# Altium schematic symbol library MODULE.SchLib: 23 symbols
Pins are listed as number, name and electrical type; pins without a type are passive.

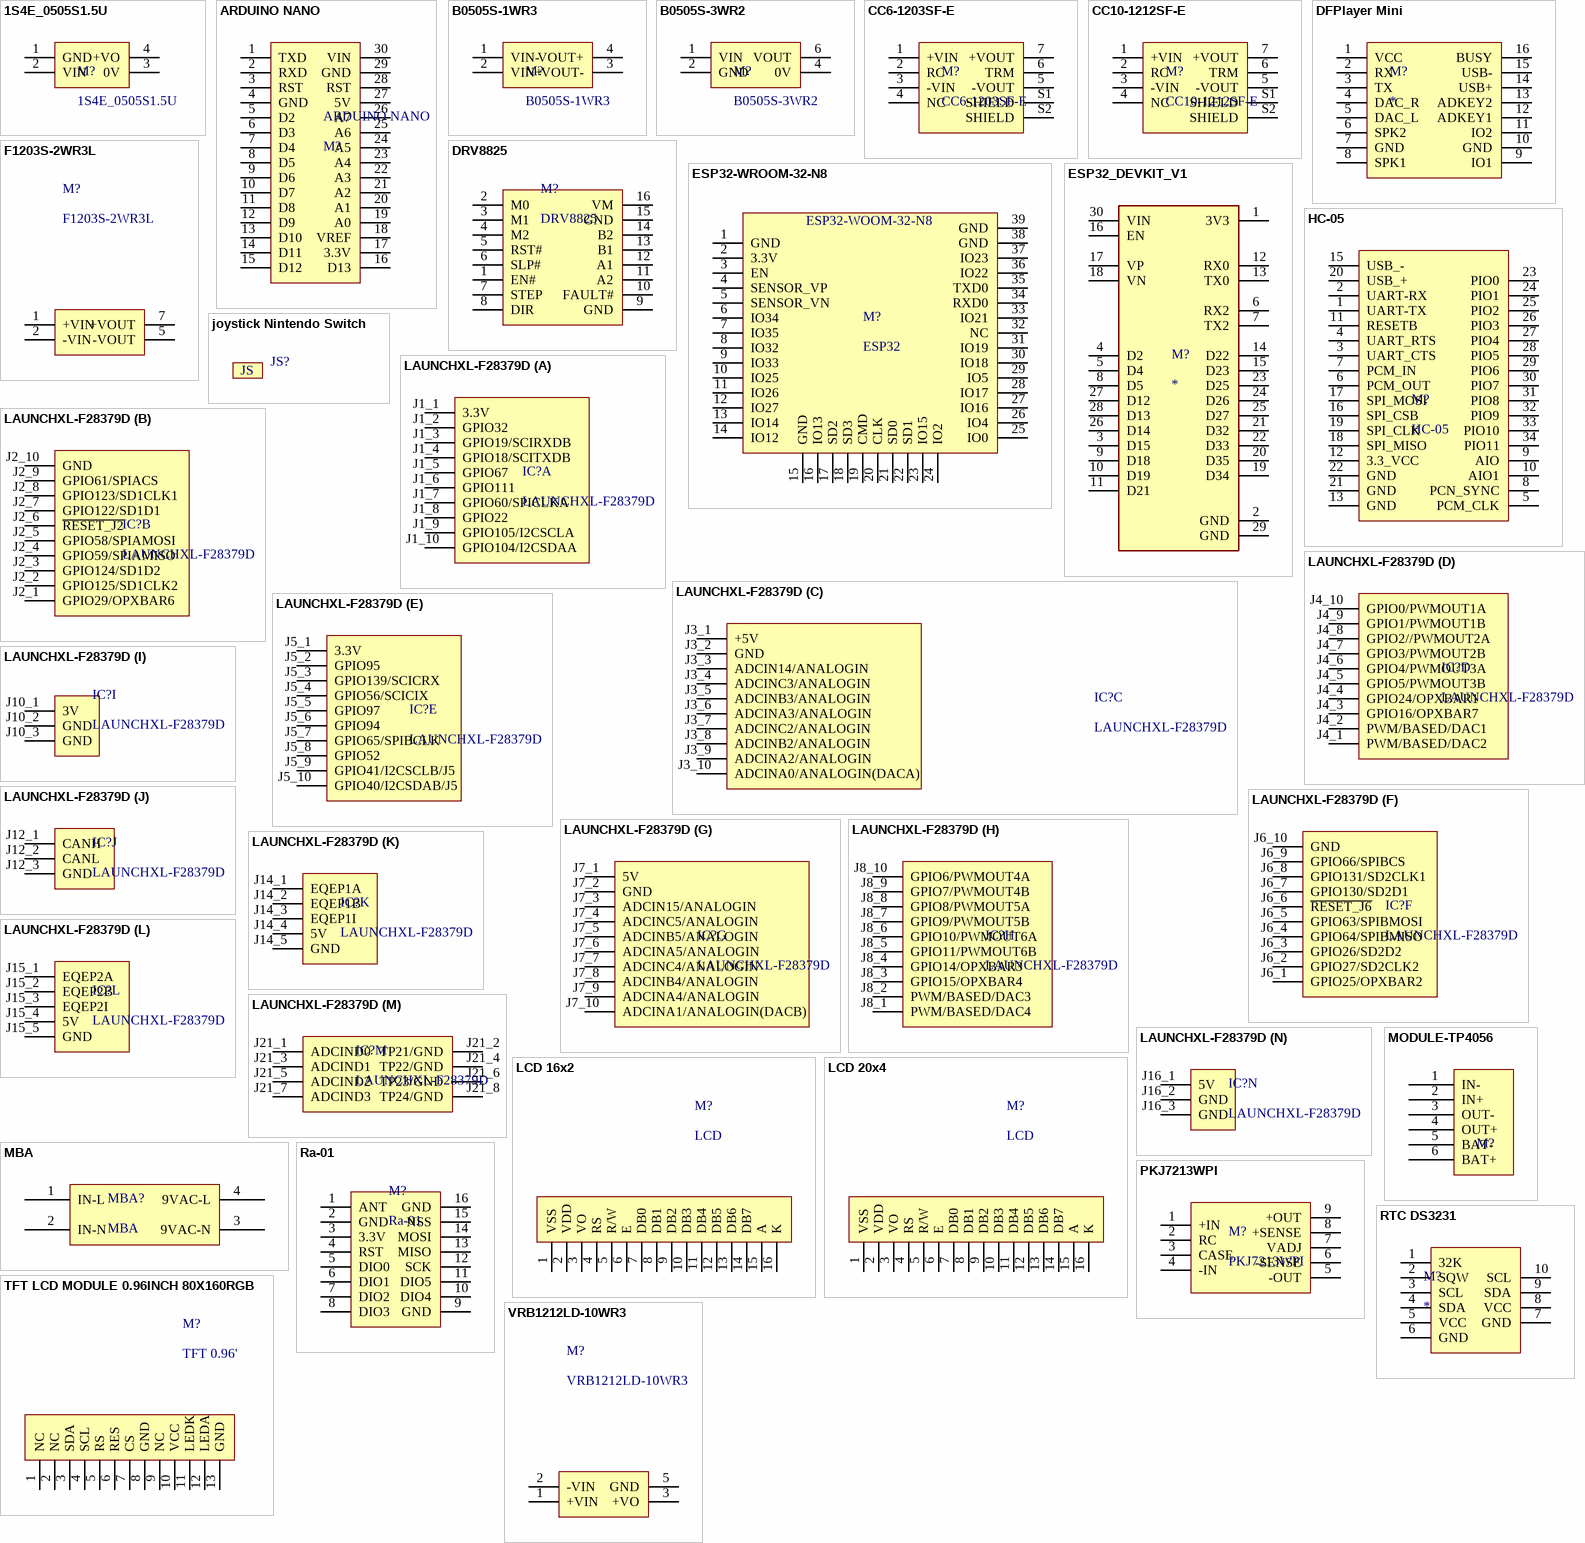
[diagram p0: symbols 1S4E_0505S1.5U to VRB1212LD-10WR3]

## 1S4E_0505S1.5U
designator M?
Isolated Module DC DC Converter 1 Output 5V 200mA 4.5V - 5.5V Input; Manufacturer: GAPTEC Electronic; Package: SIP-4; Mfr.Part #: 1S4E_0505S1.5U; DigiKey Part Number: 3182-1S4E_0505S1.5U-ND
footprint SIP-4,11.68mmx6mm
pins: 1 GND, 2 VIN, 3 0V, 4 +VO

## ARDUINO NANO
designator ARDUINO NANO, comment M?
ARDUINO NANO; So_Chan_Cam: 30; So_Chan_Dan: 0; Manufacturer: Arduino; Name: ARDUINO NANO; Package: Plugin
footprint ARDUINO NANO
pins: 1 TXD, 2 RXD, 3 RST, 4 GND, 5 D2, 6 D3, 7 D4, 8 D5, 9 D6, 10 D7, 11 D8, 12 D9, 13 D10, 14 D11, 15 D12, 16 D13, 17 3.3V, 18 VREF, 19 A0, 20 A1, 21 A2, 22 A3, 23 A4, 24 A5, 25 A6, 26 A7, 27 5V, 28 RST, 29 GND, 30 VIN

## B0505S-1WR3
designator M?
SIP-4 Isolated Power Modules ROHS; Manufacturer: EVISUN; So_Chan_Dan: 0; So_Chan_Cam: 4; Package: SIP-4; Mfr.Part #: B0505S-1WR3; Name: B0505S-1WR3
footprint SIP-4,11.68mmx6mm
pins: 1 VIN-, 2 VIN+, 3 VOUT-, 4 VOUT+

## B0505S-3WR2
designator M?
SIP-4 Isolated Power Modules ROHS; Manufacturer: EVISUN; So_Chan_Dan: 0; So_Chan_Cam: 4; Package: SIP-4; Mfr.Part #: B0505S-3WR2; Name: B0505S-3WR2
footprint SIP-4
pins: 1 VIN, 2 GND, 4 0V, 6 VOUT

## CC6-1203SF-E
designator M?
Isolated Module DC DC Converter 1 Output 3.3V 1.2A 9V - 18V Input; Manufacturer: TDK-Lambda; So_Chan_Dan: 0; So_Chan_Cam: 9; Package: DIP,22.9x21.1mm; Mfr.Part #: CC6-1203SF-E; Name: CC6-1203SF-E
footprint DIP,22.9x21.1mm
pins: 1 +VIN, 2 RC, 3 -VIN, 4 NC, 5 -VOUT, 6 TRM, 7 +VOUT, S1 SHIELD, S2 SHIELD

## CC10-1212SF-E
designator M?
Isolated Module DC DC Converter 1 Output 12 ~ 15V 1A 9V - 18V Input; Manufacturer: TDK-Lambda; So_Chan_Dan: 0; So_Chan_Cam: 9; Package: DIP,22.9x21.1mm; Mfr.Part #: CC10-1212SF-E; Name: CC10-1212SF-E
footprint DIP,35.6mm x 22.6mm
pins: 1 +VIN, 2 RC, 3 -VIN, 4 NC, 5 -VOUT, 6 TRM, 7 +VOUT, S1 SHIELD, S2 SHIELD

## DFPlayer Mini
designator M?
footprint MODULE_DFPlayer_Mini
pins: 1 VCC, 2 RX, 3 TX, 4 DAC_R, 5 DAC_L, 6 SPK2, 7 GND, 8 SPK1, 9 IO1, 10 GND, 11 IO2, 12 ADKEY1, 13 ADKEY2, 14 USB+, 15 USB-, 16 BUSY

## DRV8825
designator M?
DRV8825 Stepper Motor Controller IC; Manufacturer: Texas Instruments; So_Chan_Dan: 0; So_Chan_Cam: 16; Mfr.Part #: DRV8825; Package: Plugin; Name: DRV8825
footprint DRV8825
pins: 1 EN#, 2 M0, 3 M1, 4 M2, 5 RST#, 6 SLP#, 7 STEP, 8 DIR, 9 GND, 10 FAULT#, 11 A2, 12 A1, 13 B1, 14 B2, 15 GND, 16 VM

## ESP32-WROOM-32-N8
designator M?, comment ESP32
148dBm 20dBm SPI SMD-16P LoRa Modules ROHS; Manufacturer: Espressif Systems; Mfr.Part #: ESP32-WROOM-32-N8; So_Chan_Dan: 48; So_Chan_Cam: 0; Package: SMD,18x25.5mm; Name: ESP32-WROOM-32-N8
footprint SMD,25.5x18mm
pins: 1 GND, 2 3.3V, 3 EN, 4 SENSOR_VP, 5 SENSOR_VN, 6 IO34, 7 IO35, 8 IO32, 9 IO33, 10 IO25, 11 IO26, 12 IO27, 13 IO14, 14 IO12, 15 GND, 16 IO13, 17 SD2, 18 SD3, 19 CMD, 20 CLK, 21 SD0, 22 SD1, 23 IO15, 24 IO2, 25 IO0, 26 IO4, 27 IO16, 28 IO17, 29 IO5, 30 IO18, 31 IO19, 32 NC, 33 IO21, 34 RXD0, 35 TXD0, 36 IO22, 37 IO23, 38 GND, 39 GND
text: ESP32-WOOM-32-N8

## ESP32_DEVKIT_V1
designator M?
0.96 ST7735S LCD Screen ROHS; Manufacturer: Not in stock; Mfr.Part #: ESP32-DEVKIT-V1; Package1: TFT LCD 0.96inch; MF: Do it; Value: *; SnapEDA_Link: https://www.snapeda.com/parts/ESP32-DEVKIT-V1/Do+it/view-part/?ref=snap; Check_prices: https://www.snapeda.com/parts/ESP32-DEVKIT-V1/Do+it/view-part/?ref=eda
footprint MODULE_ESP32_DEVKIT_V1
pins: 1 3V3, 2 GND, 3 D15, 4 D2, 5 D4, 6 RX2, 7 TX2, 8 D5, 9 D18, 10 D19, 11 D21, 12 RX0, 13 TX0, 14 D22, 15 D23, 16 EN, 17 VP, 18 VN, 19 D34, 20 D35, 21 D32, 22 D33, 23 D25, 24 D26, 25 D27, 26 D14, 27 D12, 28 D13, 29 GND, 30 VIN

## F1203S-2WR3L
designator M?
SIP-4P Isolated Power Modules ROHS; Manufacturer: HI-LINK; Mfr.Part #: VRB1212LD-10WR3; So_Chan_Dan: 0; So_Chan_Cam: 4; Package: SIP-4P; Name: F1203S-2WR3L
footprint SIP-4
pins: 1 +VIN, 2 -VIN, 5 -VOUT, 7 +VOUT

## HC-05
designator M?
Bluetooth to Serial Port Module; Manufacturer: Shenzhen HCSR; So_Chan_Dan: 34; So_Chan_Cam: 0; Mfr.Part #: HC-05; Name: HC-05; Package: SMD
footprint HC-05
pins: 1 UART-TX, 2 UART-RX, 3 UART_CTS, 4 UART_RTS, 5 PCM_CLK, 6 PCM_OUT, 7 PCM_IN, 8 PCN_SYNC, 9 AIO, 10 AIO1, 11 RESETB, 12 3.3_VCC, 13 GND, 15 USB_-, 16 SPI_CSB, 17 SPI_MOSI, 18 SPI_MISO, 19 SPI_CLK, 20 USB_+, 21 GND, 22 GND, 23 PIO0, 24 PIO1, 25 PIO2, 26 PIO3, 27 PIO4, 28 PIO5, 29 PIO6, 30 PIO7, 31 PIO8, 32 PIO9, 33 PIO10, 34 PIO11

## joystick Nintendo Switch
designator JS?  (value not drawn)
footprint joystick Nintendo Switch
text: JS

## LAUNCHXL-F28379D
designator IC?
C2000 Delfino MCU F28379D LaunchPadâ„¢ development kit; MF: Texas Instruments; SnapEDA_Link: https://www.snapeda.com/parts/LAUNCHXL-F28379D/Texas+Instruments/view-part/?ref=snap; Purchase-URL: https://pricing.snapeda.com/search/part/LAUNCHXL-F28379D/?ref=eda; Value: *; MP: LAUNCHXL-F28379D; Availability: In Stock; Check_prices: https://www.snapeda.com/parts/LAUNCHXL-F28379D/Texas+Instruments/view-part/?ref=eda; Package: None; Price: None
footprint LAUNCHXL-F28379D
part A pins: J1_1 3.3V, J1_2 GPIO32, J1_3 GPIO19/SCIRXDB, J1_4 GPIO18/SCITXDB, J1_5 GPIO67, J1_6 GPIO111, J1_7 GPIO60/SPICLKA, J1_8 GPIO22, J1_9 GPIO105/I2CSCLA, J1_10 GPIO104/I2CSDAA
part B pins: J2_1 GPIO29/OPXBAR6, J2_2 GPIO125/SD1CLK2, J2_3 GPIO124/SD1D2, J2_4 GPIO59/SPIAMISO, J2_5 GPIO58/SPIAMOSI, J2_6 ~{RESET_J2}, J2_7 GPIO122/SD1D1, J2_8 GPIO123/SD1CLK1, J2_9 GPIO61/SPIACS, J2_10 GND
part C pins: J3_1 +5V, J3_2 GND, J3_3 ADCIN14/ANALOGIN, J3_4 ADCINC3/ANALOGIN, J3_5 ADCINB3/ANALOGIN, J3_6 ADCINA3/ANALOGIN, J3_7 ADCINC2/ANALOGIN, J3_8 ADCINB2/ANALOGIN, J3_9 ADCINA2/ANALOGIN, J3_10 ADCINA0/ANALOGIN(DACA)
part D pins: J4_1 PWM/BASED/DAC2, J4_2 PWM/BASED/DAC1, J4_3 GPIO16/OPXBAR7, J4_4 GPIO24/OPXBAR1, J4_5 GPIO5/PWMOUT3B, J4_6 GPIO4/PWMOUT3A, J4_7 GPIO3/PWMOUT2B, J4_8 GPIO2//PWMOUT2A, J4_9 GPIO1/PWMOUT1B, J4_10 GPIO0/PWMOUT1A
part E pins: J5_1 3.3V, J5_2 GPIO95, J5_3 GPIO139/SCICRX, J5_4 GPIO56/SCICIX, J5_5 GPIO97, J5_6 GPIO94, J5_7 GPIO65/SPIBCLK, J5_8 GPIO52, J5_9 GPIO41/I2CSCLB/J5, J5_10 GPIO40/I2CSDAB/J5
part F pins: J6_1 GPIO25/OPXBAR2, J6_2 GPIO27/SD2CLK2, J6_3 GPIO26/SD2D2, J6_4 GPIO64/SPIBMISO, J6_5 GPIO63/SPIBMOSI, J6_6 ~{RESET_J6}, J6_7 GPIO130/SD2D1, J6_8 GPIO131/SD2CLK1, J6_9 GPIO66/SPIBCS, J6_10 GND
part G pins: J7_1 5V, J7_2 GND, J7_3 ADCIN15/ANALOGIN, J7_4 ADCINC5/ANALOGIN, J7_5 ADCINB5/ANALOGIN, J7_6 ADCINA5/ANALOGIN, J7_7 ADCINC4/ANALOGIN, J7_8 ADCINB4/ANALOGIN, J7_9 ADCINA4/ANALOGIN, J7_10 ADCINA1/ANALOGIN(DACB)
part H pins: J8_1 PWM/BASED/DAC4, J8_2 PWM/BASED/DAC3, J8_3 GPIO15/OPXBAR4, J8_4 GPIO14/OPXBAR3, J8_5 GPIO11/PWMOUT6B, J8_6 GPIO10/PWMOUT6A, J8_7 GPIO9/PWMOUT5B, J8_8 GPIO8/PWMOUT5A, J8_9 GPIO7/PWMOUT4B, J8_10 GPIO6/PWMOUT4A
part I pins: J10_1 3V, J10_2 GND, J10_3 GND
part J pins: J12_1 CANH, J12_2 CANL, J12_3 GND
part K pins: J14_1 EQEP1A, J14_2 EQEP1B, J14_3 EQEP1I, J14_4 5V, J14_5 GND
part L pins: J15_1 EQEP2A, J15_2 EQEP2B, J15_3 EQEP2I, J15_4 5V, J15_5 GND
part M pins: J21_1 ADCIND0, J21_2 TP21/GND, J21_3 ADCIND1, J21_4 TP22/GND, J21_5 ADCIND2, J21_6 TP23/GND, J21_7 ADCIND3, J21_8 TP24/GND
part N pins: J16_1 5V, J16_2 GND, J16_3 GND

## LCD 16x2
designator M?, comment LCD
2 SPLC780 LCD Screen ROHS; Manufacturer: HS; Mfr.Part #: HS1602A; Name: LCD 16x2; So_Chan_Dan: 0; So_Chan_Cam: 20; Package: LCD 16x2
footprint LCD16X2
pins: 1 VSS, 2 VDD, 3 VO, 4 RS, 5 R/W, 6 E, 7 DB0, 8 DB1, 9 DB2, 10 DB3, 11 DB4, 12 DB5, 13 DB6, 14 DB7, 15 A, 16 K

## LCD 20x4
designator M?, comment LCD
2.4 SPLC780 LCD Screen ROHS; Manufacturer: HS; Mfr.Part #: HS204A; Name: LCD 20x4; So_Chan_Dan: 0; So_Chan_Cam: 20; Package: LCD 20x4
footprint LCD20X4
pins: 1 VSS, 2 VDD, 3 VO, 4 RS, 5 R/W, 6 E, 7 DB0, 8 DB1, 9 DB2, 10 DB3, 11 DB4, 12 DB5, 13 DB6, 14 DB7, 15 A, 16 K

## MBA
designator MBA?
pins: 1 IN-L, 2 IN-N, 3 9VAC-N, 4 9VAC-L

## MODULE-TP4056
designator M?  (value not drawn)
footprint MODULE_TP4056
pins: 1 IN-, 2 IN+, 3 OUT-, 4 OUT+, 5 BAT-, 6 BAT+

## PKJ7213WPI
designator M?
Isolated Module DC DC Converter 1 Output 12 ~ 15V 1A 9V - 18V Input; Manufacturer: Flex Power Modules; So_Chan_Dan: 0; So_Chan_Cam: 9; Package: Plugin; Mfr.Part #: PKJ7213WPI; DigiKey Part Number: 2166-PKJ7213WPI-ND
footprint DIP,35.6mm x 22.6mm
pins: 1 +IN, 2 RC, 3 CASE, 4 -IN, 5 -OUT, 6 -SENSE, 7 VADJ, 8 +SENSE, 9 +OUT

## Ra-01
designator M?
148dBm 20dBm SPI SMD-16P LoRa Modules ROHS; Manufacturer: Ai-Thinker; Mfr.Part #: Ra-01H; So_Chan_Dan: 16; So_Chan_Cam: 0; Package: SMD-16P; Name: Ra-01
footprint Ra-02/Ra-01
pins: 1 ANT, 2 GND, 3 3.3V, 4 RST, 5 DIO0, 6 DIO1, 7 DIO2, 8 DIO3, 9 GND, 10 DIO4, 11 DIO5, 12 SCK, 13 MISO, 14 MOSI, 15 NSS, 16 GND

## RTC DS3231
designator M?
footprint MODULE_DS3231_RTC
pins: 1 32K, 2 SQW, 3 SCL, 4 SDA, 5 VCC, 6 GND, 7 GND, 8 VCC, 9 SDA, 10 SCL

## TFT LCD MODULE 0.96INCH 80X160RGB
designator M?, comment TFT 0.96'
2.4 SPLC780 LCD Screen ROHS; Manufacturer: Newvisio; Mfr.Part #: N096-1608TBBIG11-H13; Name: LCD 2TFT LCD MODULE 0.96INCH 80X160RGB0x4; So_Chan_Dan: 13; So_Chan_Cam: 0; Package: SMD
footprint TFT LCD MODULE  0.96 inch 80RGB*160DOTS
pins: 1 NC, 2 NC, 3 SDA, 4 SCL, 5 RS, 6 RES, 7 CS, 8 GND, 9 NC, 10 VCC, 11 LEDK, 12 LEDA, 13 GND

## VRB1212LD-10WR3
designator M?
Plugin Isolated Power Modules ROHS; Manufacturer: HI-LINK; So_Chan_Dan: 0; So_Chan_Cam: 4; Mfr.Part #: VRB1212LD-10WR3; Package: Plugin; Name: VRB1212LD-10WR3
footprint VRBXXXXLD-10WR3
pins: 1 +VIN, 2 -VIN, 3 +VO, 5 GND